# Altium footprint library Kyle_ComponentFootprints.PcbLib: 3 footprints
Each footprint in its own frame and in the unit in brackets; x right, y up, seen from the top. Pads: shape width x height; smd on the part's side, far side on the other; paste and mask are expansions set on the pad; w line width, h text height; cw(c..) or ccw(c..) is an arc to the next point about the centre after c.
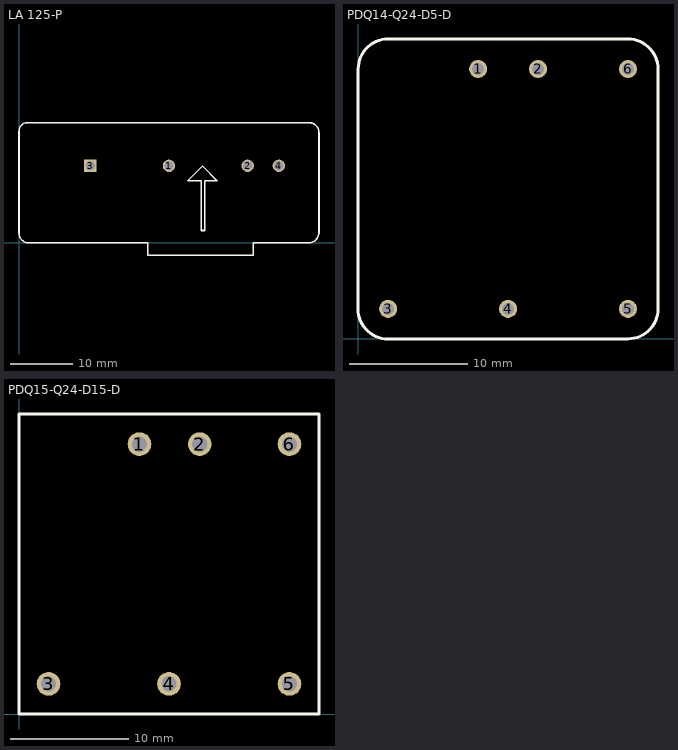
[diagram p0: the footprints below, top view; thin cyan lines are the x and y axes]

## LA 125-P [mm] "LEM hall-effect current sensor(footprint)"
height 33.2
pads (4):
  round 2 hole 1.5: 1(24.2,12.45) 2(36.9,12.45) 4(41.92,12.45)
  rect 2x2 hole 1.5: 3(11.5,12.45)
Top Overlay:
  lines w0.254: 46.6,0 ccw(c46.7,1.7) 48.4,1.6 48.4,17.8 ccw(c46.8,17.8) 46.8,19.4 ; 47,0 37.8,0 37.8,-2 20.8,-2 20.8,0 1.6,0 cw(c1.6,1.6) 0,1.6 0,18 cw(c1.367,18.033) 1.4,19.4 47,19.4 ; 27.2,10 29.6,12.4 32,10 30,10 30,2 29.4,2 29.4,10 27.2,10
3D body: height 9.5, standoff 0, extent 0,0 48.4,19.4
3D body: height 14, standoff 9.5, extent 38,0 48.4,19.4
3D body: height 14, standoff 9.5, extent 0,0 20.8,19.4
3D body: height 20.5, standoff 14, extent 0,0 22.6,19.4
3D body: height 20.5, standoff 14, extent 36,0 48.4,19.4
3D body: height 33.2, standoff 20.5, extent 0,0 48.4,19.4
3D body: height 0.25, standoff 0, extent 51.8,13.2 51.8,13.2

## PDQ14-Q24-D5-D [mil] "+/- 5V output power supply footprint"
pads (6):
  round 60 hole 40: 1(400,900) 2(600,900) 3(100,100) 4(500,100) 5(900,100) 6(900,900)
Top Overlay:
  lines w10: -0.5,100 ccw(c100,100) 100,-0.5 ; 0,100 0,900 cw(c100,900) 100,1000 900,1000 cw(c900,900) 1000,900 1000,100 cw(c900,100) 900,0 100,0

## PDQ15-Q24-D15-D [mm] "+/-15V 15W output DC/DC converter"
height 10.2
pads (6):
  round 2 hole 1.3: 1(10.2,22.85) 2(15.3,22.85) 3(2.5,2.55) 4(12.7,2.55) 5(22.9,2.55) 6(22.9,22.85)
Top Overlay:
  lines w0.254: 0,0 0,25.4 25.4,25.4 25.4,0 0,0
3D body "CUI_PDQ15-Q24-D15-D.step": height 10.2, standoff -5.6, extent 0.1,0.1 25.5,25.5